# Altium schematic symbol library TRANS-EP-SGD.SCHLIB: 1 symbol
Pins are listed as number, name and electrical type; pins without a type are passive.

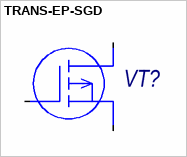
[diagram p0: symbol TRANS-EP-SGD]

## TRANS-EP-SGD
designator VT?
MOSFET
pins: 1 S, 2 G, 3 D